# Altium schematic symbol library HC-SR04.SchLib: 1 symbol
Pins are listed as number, name and electrical type; pins without a type are passive.

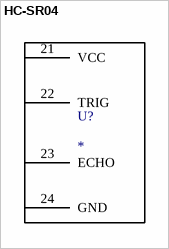
[diagram p0: symbol HC-SR04]

## HC-SR04
designator U?
pins: 21 VCC, 22 TRIG, 23 ECHO, 24 GND